# EAGLE library part 62000711622 (library Wuerth_Elektronik_eiCan_Wire_to_Board_Connectors v1.2)
WR-WTB 2.00mm Male Vertical Shrouded Header, 7 Pins
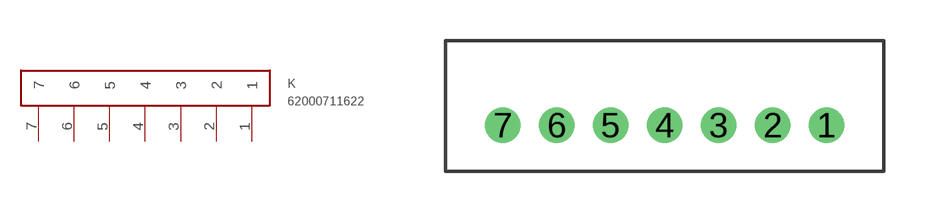
[diagram p26: symbol with the pads of 62000711622; footprint 62000711622]

Designator prefix K

## 62000711622  [62000711622]
1  1
2  2
3  3
4  4
5  5
6  6
7  7

## Footprint 62000711622 (pad centres in mm)
WR-WTB 2.00mm Male Vertical Shrouded Header, 7 Pins
drill 0.8 round: 1 1,0; 2 -1,0; 3 -3,0; 4 -5,0; 5 -7,0; 6 -9,0; 7 -11,0